# Altium schematic symbol library DB9.SchLib: 1 symbol
Pins are listed as number, name and electrical type; pins without a type are passive.

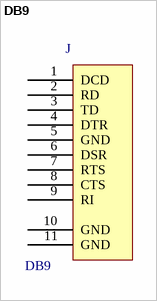
[diagram p0: symbol DB9]

## DB9
designator J  value DB9  (hidden comment: *)
footprint DB9
pins: 1 DCD, 2 RD, 3 TD, 4 DTR, 5 GND, 6 DSR, 7 RTS, 8 CTS, 9 RI, 10 GND, 11 GND